# Altium footprint library CON-BOR-X3-5MM.PcbLib: 1 footprints
Each footprint in its own frame and in the unit in brackets; x right, y up, seen from the top. Pads: shape width x height; smd on the part's side, far side on the other; paste and mask are expansions set on the pad; w line width, h text height; cw(c..) or ccw(c..) is an arc to the next point about the centre after c.
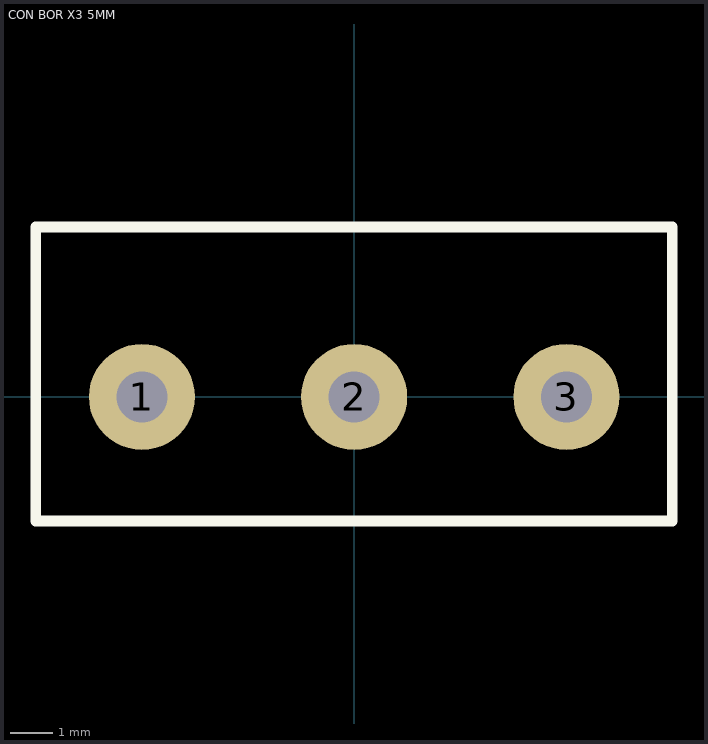
[diagram p0: the footprint, top view; thin cyan lines are the x and y axes]

## CON BOR X3 5MM [mm] "Bornera X3 5MM"
pads (3):
  round 2.5 hole 1.2: 1(-5,0) 2(0,0) 3(5,0)
Top Overlay:
  lines w0.254: -7.5,-2.921 7.493,-2.921 7.493,4 -7.5,4 -7.5,-2.921
3D body "CON-BOR-X3-5MM.stp": height 10, standoff -4.1, extent -8.1,-3.1 7.5,4.5